# Altium footprint library ResistorCapacitorInductor.PcbLib: 34 footprints (part 2 of 3)
Each footprint in its own frame and in the unit in brackets; x right, y up, seen from the top. Pads: shape width x height; smd on the part's side, far side on the other; paste and mask are expansions set on the pad; w line width, h text height; cw(c..) or ccw(c..) is an arc to the next point about the centre after c.
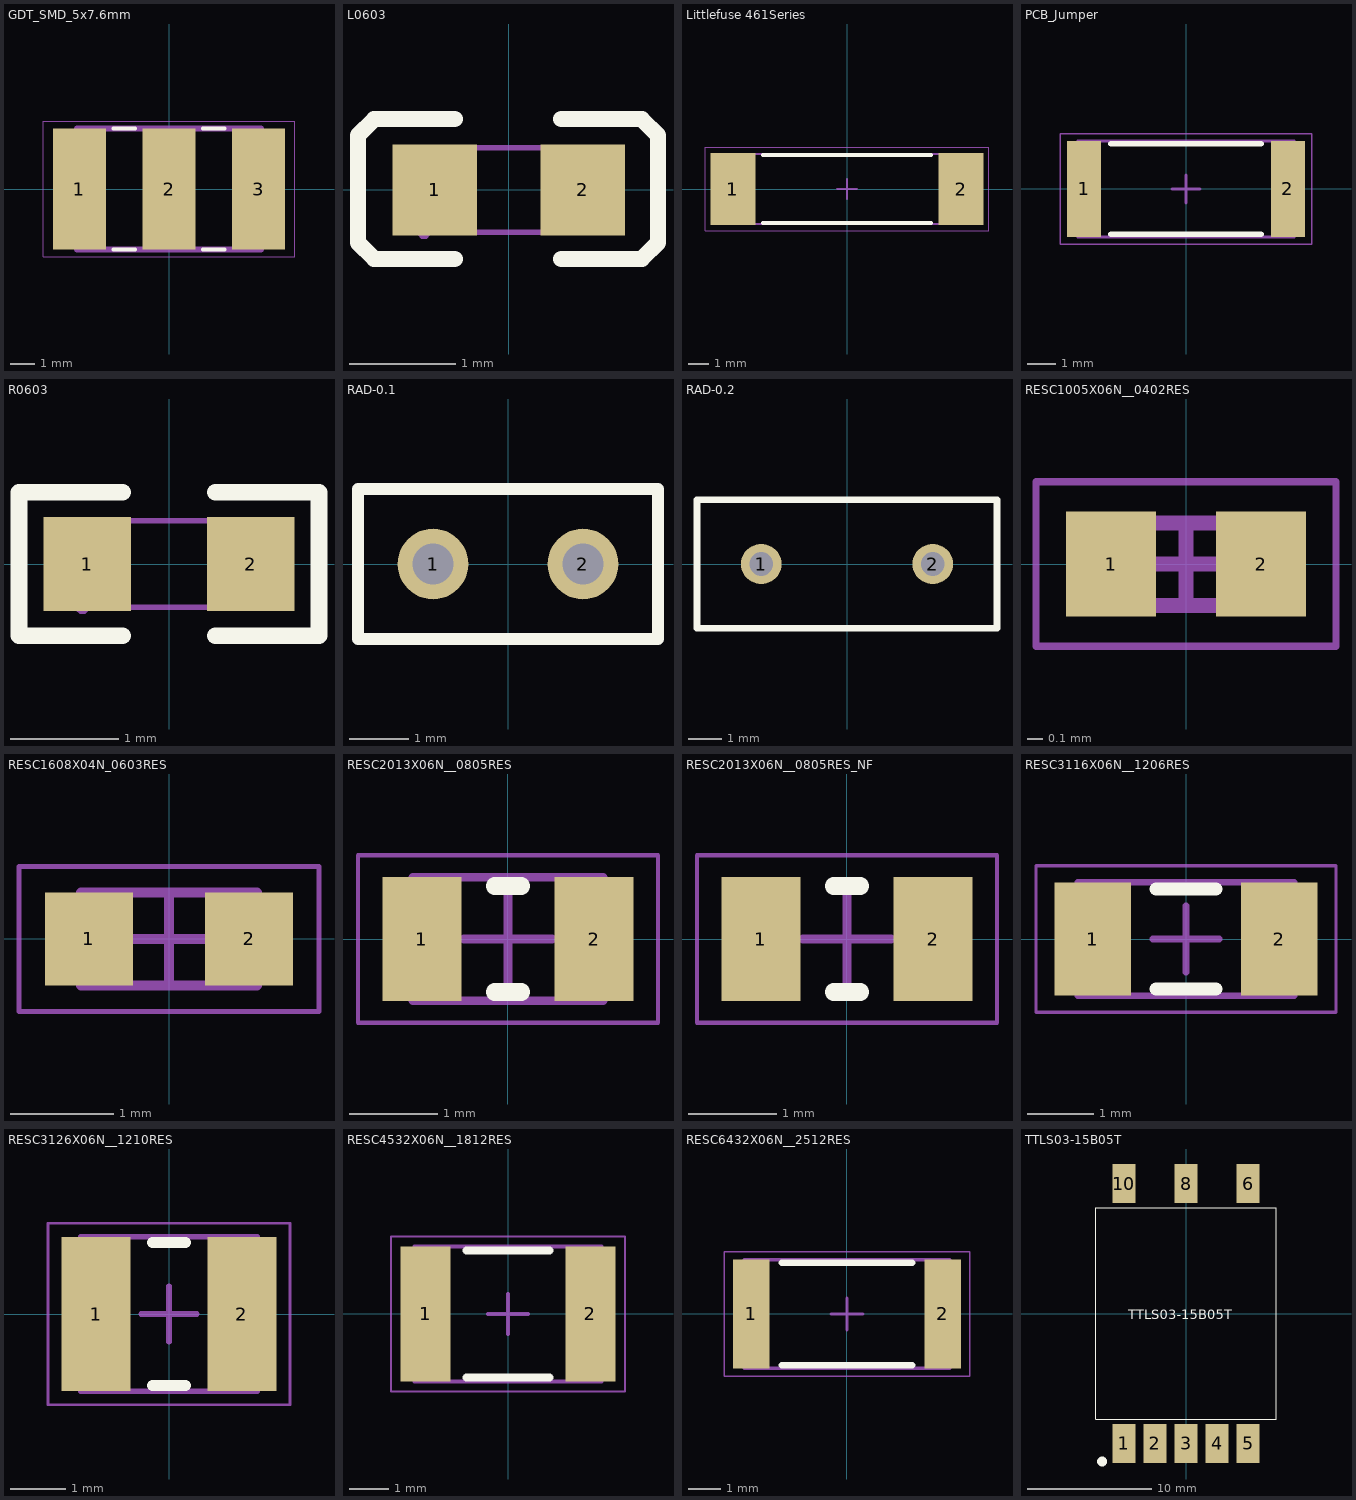
[diagram p1: the footprints below, top view; thin cyan lines are the x and y axes]

## GDT_SMD_5x7.6mm [mm]
pads (3):
  rect 2.2x5 smd: 1(-3.7,0) 2(0,0) 3(3.7,0)
Top Overlay:
  lines w0.152: -2.3,-2.5 -1.4,-2.5 ; -2.3,2.5 -1.4,2.5 ; 1.4,-2.5 2.3,-2.5 ; 1.4,2.5 2.3,2.5
Mechanical 13:
  lines w0.254: -3.8,-2.5 -3.8,2.5 0,2.5 3.8,2.5 3.8,-2.5 0,-2.5 -3.8,-2.5
Mechanical 15:
  lines w0.05: -5.2,-2.8 -5.2,2.8 0,2.8 5.2,2.8 5.2,-2.8 0,-2.8 -5.2,-2.8
  lines w0.127: -0.5,0 0.5,0 ; 0,-0.5 0,0.5
3D body: height 5.8, standoff 5, extent -3.8,-2.5 3.8,2.5
3D body: height 5, standoff 0, extent -3.8,-2.5 3.8,2.5

## L0603 [mm]
pads (2):
  rect 0.8x0.864 smd paste-100 mask+0.051: 1(-0.7,0) 2(0.7,0)
Top Overlay:
  lines w0.152: -0.51,-0.651 -1.272,-0.651 -1.424,-0.499 -1.424,0.517 -1.272,0.67 -0.51,0.67 ; 0.496,-0.651 1.258,-0.651 1.411,-0.499 1.411,0.517 1.258,0.67 0.496,0.67
Top Paste:
  region: 0.264,0.154 0.264,-0.122 0.538,-0.416 1.042,-0.416 1.106,-0.352 1.106,0.384 1.042,0.448 0.538,0.448
  region: -0.252,0.143 -0.252,-0.134 -0.526,-0.427 -1.029,-0.427 -1.093,-0.363 -1.093,0.373 -1.029,0.437 -0.526,0.437
Mechanical 15:
  region: -0.74,-0.4 -0.74,-0.375 -0.775,-0.34 -0.825,-0.34 -0.86,-0.375 -0.86,-0.4 -0.86,-0.425 -0.825,-0.46 -0.775,-0.46 -0.74,-0.425 -0.74,-0.4
  region: -0.5,-0.4 -0.8,-0.4 -0.8,0.4 -0.5,0.4
  region: 0.8,-0.4 0.5,-0.4 0.5,0.4 0.8,0.4
  lines w0.051: -0.8,-0.4 -0.8,0.4 0.8,0.4 0.8,-0.4 -0.8,-0.4

## Littlefuse 461Series [mm]
height 3.12
pads (2):
  rect 2.2x3.55 smd: 1(-5.625,0) 2(5.625,0)
Top Overlay:
  lines w0.2: -4.15,-1.675 4.15,-1.675 ; -4.15,1.675 4.15,1.675
Mechanical 13:
  lines w0.1: -6.3,-1.715 -6.3,1.715 6.3,1.715 6.3,-1.715 -6.3,-1.715
Mechanical 15:
  lines w0.05: -7,-2.05 -7,2.05 7,2.05 7,-2.05 -7,-2.05
  lines w0.1: -0.5,0 0.5,0 ; 0,-0.5 0,0.5
3D body: height 3.12, standoff 0, extent -4.6,-1.715 4.6,1.715
3D body: height 3.12, standoff 0, extent -6.3,-1.715 -4.6,1.715
3D body: height 3.12, standoff 0, extent 4.6,-1.715 6.3,1.715

## PCB_Jumper [mm] "QM8.2"
pads (2):
  rect 1.2x3.4 smd: 1(-3.6,0) 2(3.6,0)
Top Overlay:
  lines w0.2: -2.65,-1.6 2.65,-1.6 ; -2.65,1.6 2.65,1.6
Mechanical 13:
  lines w0.1: -3.825,-1.7 3.825,-1.7 3.825,1.7 -3.825,1.7 -3.825,-1.7
Mechanical 15:
  lines w0.05: -4.45,-1.95 4.45,-1.95 4.45,1.95 -4.45,1.95 -4.45,-1.95
  lines w0.1: -0.5,0 0.5,0 ; 0,-0.5 0,0.5
3D body "rsmd-2512_l6-4_w3-2_h1-1.stp": height 1.1, standoff 0, extent -3.2,-1.6 3.2,1.6

## R0603 [mm]
pads (2):
  rect 0.806x0.864 smd paste-100 mask+0.051: 1(-0.753,0) 2(0.753,0)
Top Overlay:
  lines w0.152: -0.426,-0.661 -1.385,-0.661 -1.385,0.661 -0.426,0.661 ; 0.426,-0.661 1.385,-0.661 1.385,0.661 0.426,0.661
Top Paste:
  region: 1.195,0.45 0.395,0.45 0.345,0.4 0.345,0.172 0.715,0.172 0.715,-0.158 0.345,-0.158 0.345,-0.4 0.395,-0.45 1.195,-0.45 1.245,-0.4 1.245,0.4
  region: -0.355,0.4 -0.355,0.172 -0.735,0.172 -0.735,-0.158 -0.355,-0.158 -0.355,-0.4 -0.405,-0.45 -1.195,-0.45 -1.245,-0.4 -1.245,0.4 -1.195,0.45 -0.405,0.45
Mechanical 15:
  region: -0.8,-0.4 -0.8,0.4 -0.5,0.4 -0.5,-0.4
  region: 0.8,-0.4 0.8,0.4 0.5,0.4 0.5,-0.4
  region: -0.74,-0.4 -0.74,-0.375 -0.775,-0.34 -0.825,-0.34 -0.86,-0.375 -0.86,-0.4 -0.86,-0.425 -0.825,-0.46 -0.775,-0.46 -0.74,-0.425 -0.74,-0.4
  lines w0.051: -0.8,-0.4 -0.8,0.4 0.8,0.4 0.8,-0.4 -0.8,-0.4

## RAD-0.1 [mm] "Radial Cap, Thru-Hole; 2 Leads; 0.1 in Pin Spacing"
pads (2):
  round 1.2 hole 0.7: 1(-1.27,0) 2(1.27,0)
Top Overlay:
  lines w0.2: -2.54,-1.27 -2.54,1.27 2.54,1.27 2.54,-1.27 -2.54,-1.27

## RAD-0.2 [mm] "Radial Cap, Thru-Hole; 2 Leads; 0.2 in Pin Spacing"
pads (2):
  round 1.2 hole 0.7: 1(-2.54,0) 2(2.54,0)
Top Overlay:
  lines w0.2: -4.445,-1.905 -4.445,1.905 4.445,1.905 4.445,-1.905 -4.445,-1.905

## RESC1005X06N__0402RES [mm] "Chip Resistor, 2-Leads, Body 1.00x0.50mm, IPC Medium Density"
height 0.55
pads (2):
  rect 0.6x0.7 smd: 1(-0.5,0) 2(0.5,0)
Mechanical 13:
  lines w0.1: -0.55,-0.275 0.55,-0.275 0.55,0.275 -0.55,0.275 -0.55,-0.275
Mechanical 15:
  lines w0.05: -1,-0.55 0,-0.55 1,-0.55 1,0 1,0.55 0,0.55 -1,0.55 -1,0 -1,-0.55
  lines w0.1: -0.275,0 0.275,0 ; 0,-0.275 0,0.275
3D body "Resistor_0402_Text.step": height 0.37, standoff 0.01, extent -0.508,-0.254 0.508,0.254

## RESC1608X04N_0603RES [mm] "Chip Resistor, 2-Leads, Body 1.60x0.80mm, IPC Medium Density"
height 0.45
pads (2):
  rect 0.85x0.9 smd: 1(-0.775,0) 2(0.775,0)
Mechanical 13:
  lines w0.1: -0.85,-0.45 0.85,-0.45 0.85,0.45 -0.85,0.45 -0.85,-0.45
Mechanical 15:
  lines w0.05: -1.45,-0.7 1.45,-0.7 1.45,0.7 -1.45,0.7 -1.45,-0.7
  lines w0.1: -0.45,0 0.45,0 ; 0,-0.45 0,0.45
3D body "Resistor_0603_Text.step": height 0.47, standoff 0.01, extent -0.8,-0.4 0.8,0.4

## RESC2013X06N__0805RES [mm] "Chip Resistor, 2-Leads, Body 2.00x1.27mm, IPC Medium Density"
height 0.55
pads (2):
  rect 0.9x1.4 smd: 1(-0.975,0) 2(0.975,0)
Top Overlay:
  lines w0.2: -0.15,-0.6 0.15,-0.6 ; -0.15,0.6 0.15,0.6
Mechanical 13:
  lines w0.1: -1.075,-0.7 1.075,-0.7 1.075,0.7 -1.075,0.7 -1.075,-0.7
Mechanical 15:
  lines w0.05: -1.7,-0.95 1.7,-0.95 1.7,0.95 -1.7,0.95 -1.7,-0.95
  lines w0.1: -0.5,0 0.5,0 ; 0,-0.5 0,0.5
3D body "Resistor_0805_Text.step": height 0.52, standoff 0.01, extent -1,-0.625 1,0.625

## RESC2013X06N__0805RES_NF [mm] "Chip Resistor, 2-Leads, Body 2.00x1.27mm, IPC Medium Density"
height 0.55
pads (2):
  rect 0.9x1.4 smd: 1(-0.975,0) 2(0.975,0)
Top Overlay:
  lines w0.2: -0.15,-0.6 0.15,-0.6 ; -0.15,0.6 0.15,0.6
Mechanical 15:
  lines w0.05: -1.7,-0.95 1.7,-0.95 1.7,0.95 -1.7,0.95 -1.7,-0.95
  lines w0.1: -0.5,0 0.5,0 ; 0,-0.5 0,0.5

## RESC3116X06N__1206RES [mm] "Chip Resistor, 2-Leads, Body 3.10x1.58mm, IPC Medium Density"
height 0.65
pads (2):
  rect 1.15x1.7 smd: 1(-1.4,0) 2(1.4,0)
Top Overlay:
  lines w0.2: -0.45,-0.75 0.45,-0.75 ; -0.45,0.75 0.45,0.75
Mechanical 13:
  lines w0.1: -1.625,-0.85 -1.625,0.85 1.625,0.85 1.625,-0.85 -1.625,-0.85
Mechanical 15:
  lines w0.05: -2.25,-1.1 -2.25,1.1 2.25,1.1 2.25,-1.1 -2.25,-1.1
  lines w0.1: -0.5,0 0.5,0 ; 0,-0.5 0,0.5
3D body "Resistor_1206_Text.step": height 0.62, standoff 0.01, extent -1.6,-0.8 1.6,0.8

## RESC3126X06N__1210RES [mm] "Chip Resistor, 2-Leads, Body 3.10x2.60mm, IPC Medium Density"
height 0.65
pads (2):
  rect 1.25x2.8 smd: 1(-1.325,0) 2(1.325,0)
Top Overlay:
  lines w0.2: -0.3,-1.3 0.3,-1.3 ; -0.3,1.3 0.3,1.3
Mechanical 13:
  lines w0.1: -1.6,-1.4 1.6,-1.4 1.6,1.4 -1.6,1.4 -1.6,-1.4
Mechanical 15:
  lines w0.05: -2.2,-1.65 2.2,-1.65 2.2,1.65 -2.2,1.65 -2.2,-1.65
  lines w0.1: -0.5,0 0.5,0 ; 0,-0.5 0,0.5
3D body "1210.step": height 0.62, standoff 0.01, extent -1.6,-1.25 1.6,1.25

## RESC4532X06N__1812RES [mm] "Chip Resistor, 2-Leads, Body 4.50x3.20mm, IPC Medium Density"
height 0.55
pads (2):
  rect 1.25x3.4 smd: 1(-2.075,0) 2(2.075,0)
Top Overlay:
  lines w0.2: -1.05,-1.6 1.05,-1.6 ; -1.05,1.6 1.05,1.6
Mechanical 13:
  lines w0.1: -2.35,-1.7 2.35,-1.7 2.35,1.7 -2.35,1.7 -2.35,-1.7
Mechanical 15:
  lines w0.05: -2.95,-1.95 2.95,-1.95 2.95,1.95 -2.95,1.95 -2.95,-1.95
  lines w0.1: -0.5,0 0.5,0 ; 0,-0.5 0,0.5
3D body "rsmd-1812_l4-5_w3-2_h0-6.stp": height 0.6, standoff 0, extent -2.25,-1.6 2.25,1.6

## RESC6432X06N__2512RES [mm] "Chip Resistor, 2-Leads, Body 6.35x3.20mm, IPC Medium Density"
height 0.55
pads (2):
  rect 1.15x3.4 smd: 1(-3,0) 2(3,0)
Top Overlay:
  lines w0.2: -2.05,-1.6 2.05,-1.6 ; -2.05,1.6 2.05,1.6
Mechanical 13:
  lines w0.1: -3.225,-1.7 -3.225,1.7 3.225,1.7 3.225,-1.7 -3.225,-1.7
Mechanical 15:
  lines w0.05: -3.85,-1.95 -3.85,1.95 3.85,1.95 3.85,-1.95 -3.85,-1.95
  lines w0.1: -0.5,0 0.5,0 ; 0,-0.5 0,0.5
3D body "rsmd-2512_l6-4_w3-2_h1-1.stp": height 1.1, standoff 0, extent -3.2,-1.6 3.2,1.6

## TTLS03-15B05T [mm]
pads (8):
  rect 1.85x3.15 smd: 1(-5,-10.45) 2(-2.5,-10.45) 3(0,-10.45) 4(2.5,-10.45) 5(5,-10.45) 6(5,10.45) 8(0,10.45) 10(-5,10.45)
Top Overlay:
  circle w0.4: c-6.75,-11.9 r0.2
  lines w0.1: -7.25,-8.5 -7.25,8.5 7.25,8.5 7.25,-8.5 -7.25,-8.5
  text "TTLS03-15B05T" at -4.65,-0.45 h0.76
3D body "TTLS03-15Bxx-T.stp": height 6.97, standoff -0.1, extent -6.675,-11.05 7.325,10.85